# Altium footprint library 1206_tantalio.PcbLib: 1 footprints
Each footprint in its own frame and in the unit in brackets; x right, y up, seen from the top. Pads: shape width x height; smd on the part's side, far side on the other; paste and mask are expansions set on the pad; w line width, h text height; cw(c..) or ccw(c..) is an arc to the next point about the centre after c.
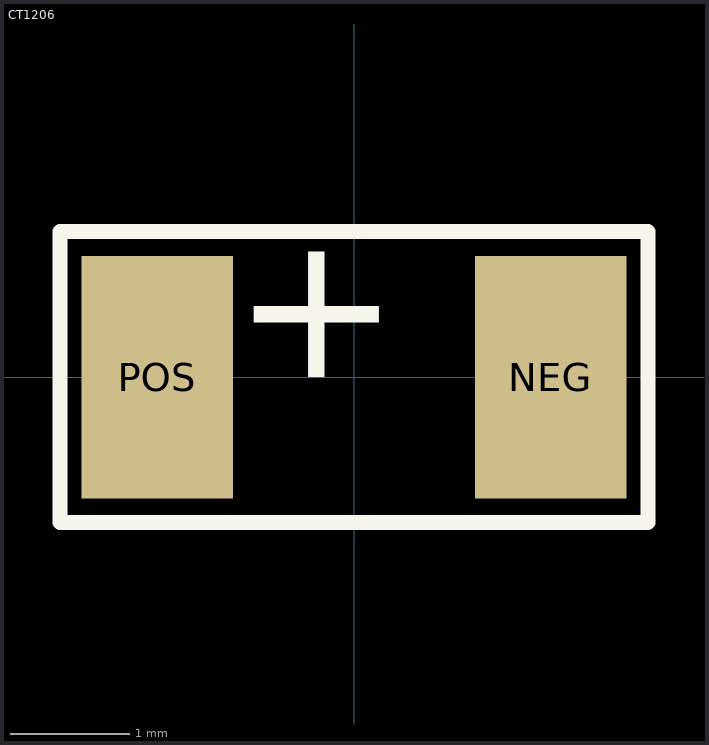
[diagram p0: the footprint, top view; thin cyan lines are the x and y axes]

## CT1206 [mil]
pads (2):
  rect 50x80 smd: NEG(65,0) POS(-65,0)
Top Overlay:
  lines w5: -97,-48 -97,48 97,48 97,-48 -97,-48
  text "+" at -40.01,0 h50.01
3D body "tantalum_10uF.stp": height 67.03, standoff 0.06, extent -68.86,-27.99 65,35